# Altium footprint library JMPKG.PcbLib: 337 footprints (part 7 of 22)
Each footprint in its own frame and in the unit in brackets; x right, y up, seen from the top. Pads: shape width x height; smd on the part's side, far side on the other; paste and mask are expansions set on the pad; w line width, h text height; cw(c..) or ccw(c..) is an arc to the next point about the centre after c.
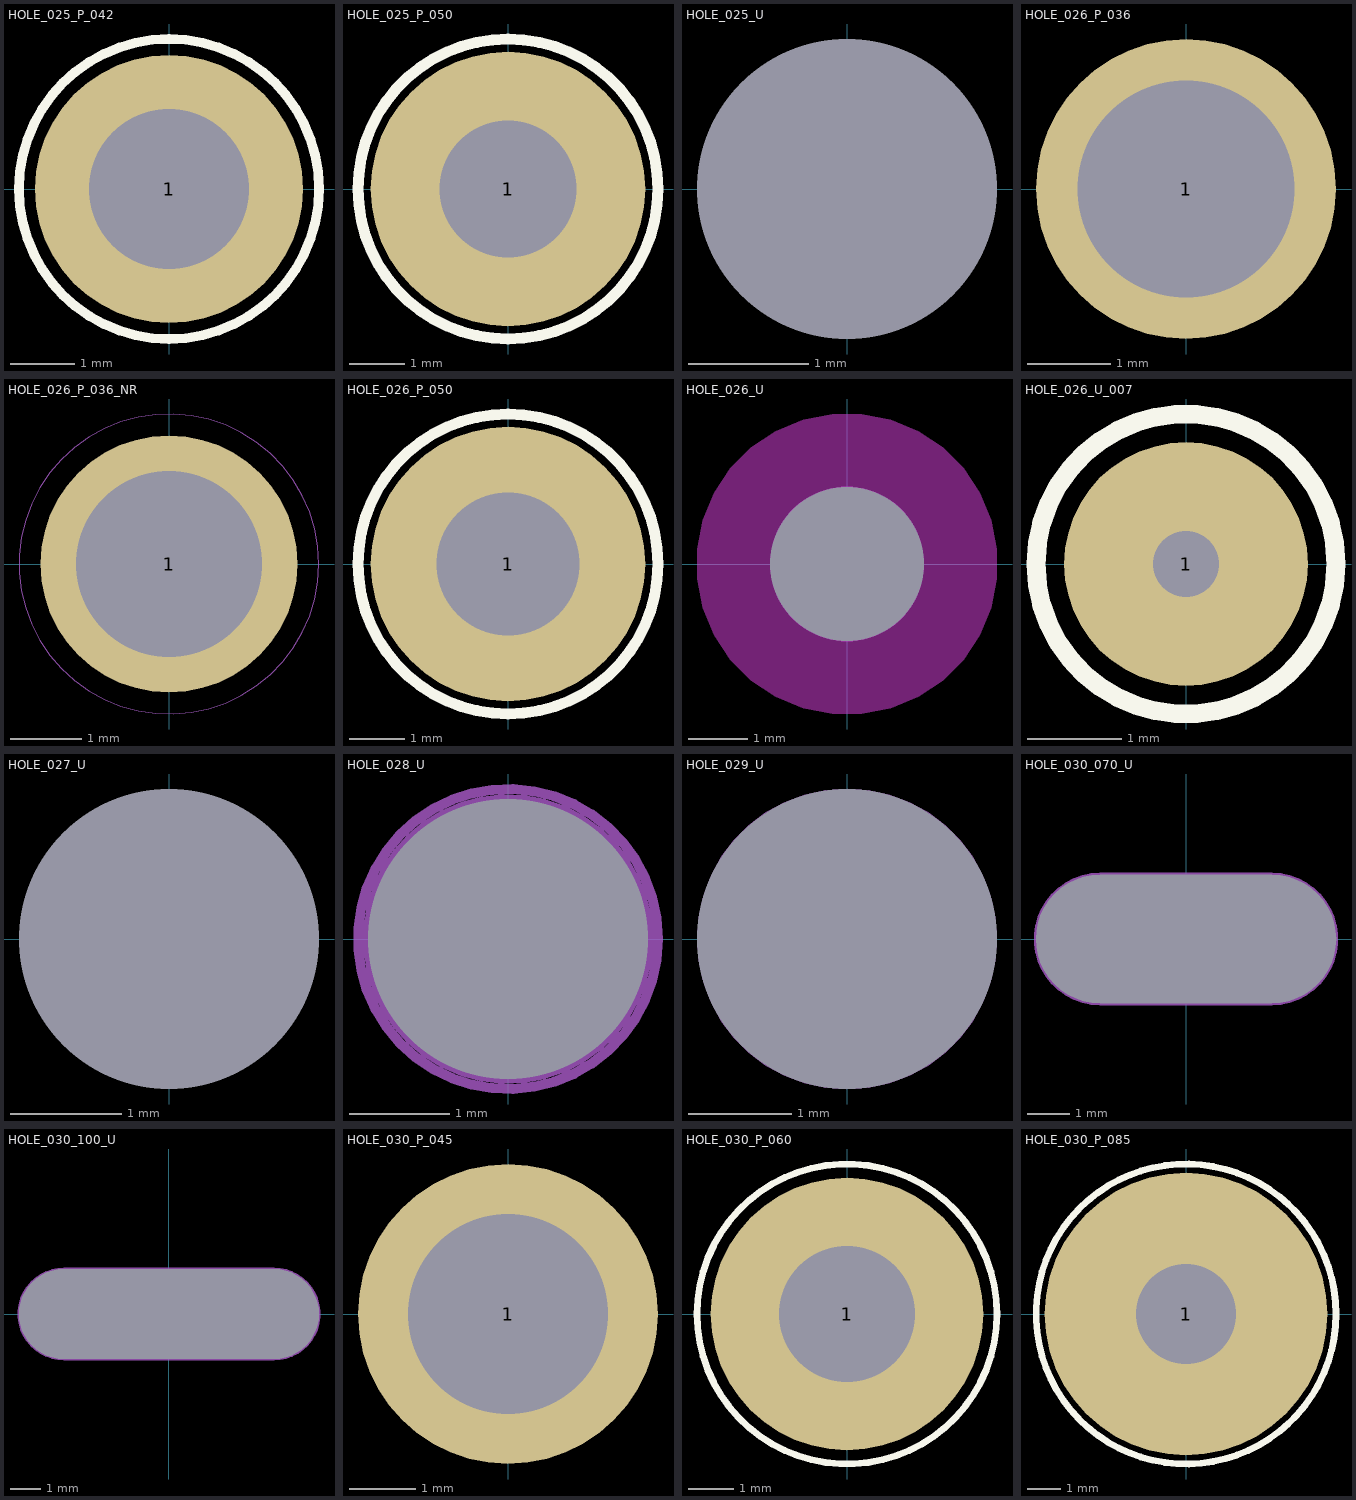
[diagram p6: the footprints below, top view; thin cyan lines are the x and y axes]

## HOLE_025_P_042 [mm]
pads (1):
  round 4.2 hole 2.5 mask+0.2: 1(0,0)
Top Overlay:
  circle w0.15: c0,0 r2.35
Mechanical 15:
  circle w0.01: c0,0 r1.25
Mechanical 16:
  circle w0.01: c0,0 r1.25
Multi-Layer:
  text "Value" at -0.943,-0.749 h0.6
  text "Value" at -0.816,-1.511 h0.6
Mechanical 20:
  circle w0.01: c0,0 r2.35

## HOLE_025_P_050 [mm]
pads (1):
  round 5 hole 2.5 mask+0.05: 1(0,0)
Top Overlay:
  circle w0.2: c0,0 r2.73
Mechanical 15:
  circle w0.01: c0,0 r1.25
Mechanical 16:
  circle w0.01: c0,0 r1.25
Multi-Layer:
  text "Value" at -1.24,-1.83 h0.75
Mechanical 20:
  circle w0.01: c0,0 r2.73

## HOLE_025_U [mm]
pads (1):
  round 0 hole 2.5 unplated: 1(0,0)
Drill Drawing:
  circle w0.01: c0,0 r1.25

## HOLE_026_P_036 [mm]
pads (1):
  round 3.6 hole 2.6 mask+0.1: 1(0,0)
Mechanical 15:
  circle w0.1: c0,0 r1.3
Mechanical 16:
  circle w0.1: c0,0 r1.3
Multi-Layer:
  text "Value" at -1.45,-1.925 h0.85

## HOLE_026_P_036_NR [mm]
pads (1):
  round 3.6 hole 2.6 mask+0.05: 1(0,0)
Mechanical 15:
  circle w0.01: c0,0 r1.3
Mechanical 16:
  circle w0.01: c0,0 r1.3
Multi-Layer:
  text "Value" at -1.405,-1.88 h0.85
Mechanical 20:
  circle w0.01: c0,0 r2.1

## HOLE_026_P_050 [mm]
pads (1):
  round 5 hole 2.6 mask+0.05: 1(0,0)
Top Overlay:
  circle w0.2: c0,0 r2.73
Mechanical 15:
  circle w0.01: c0,0 r1.3
Mechanical 16:
  circle w0.01: c0,0 r1.3
Multi-Layer:
  text "Value" at -1.24,-1.83 h0.75
  text "Value" at -1.235,-0.919 h0.75
Mechanical 20:
  circle w0.01: c0,0 r2.73

## HOLE_026_U [mm]
pads (1):
  round 0 hole 2.6 unplated: 1(0,0)
L1-Top Layer keep-out:
  region: 2.54,0 2.54,0.25 2.442,0.741 2.251,1.203 1.973,1.619 1.619,1.973 1.203,2.251 0.741,2.442 0.25,2.54 0,2.54 -0.25,2.54 -0.741,2.442 -1.203,2.251 -1.619,1.973 -1.973,1.619 -2.251,1.203 -2.442,0.741 -2.54,0.25 -2.54,0 -2.54,-0.25 -2.442,-0.741 -2.251,-1.203 -1.973,-1.619 -1.619,-1.973 -1.203,-2.251 -0.741,-2.442 -0.25,-2.54 0,-2.54 0.25,-2.54 0.741,-2.442 1.203,-2.251 1.619,-1.973 1.973,-1.619 2.251,-1.203 2.442,-0.741 2.54,-0.25
Mechanical 15:
  circle w0.01: c0,0 r1.3
Mechanical 16:
  circle w0.01: c0,0 r1.3

## HOLE_026_U_007 [mm]
pads (1):
  round 2.6 on Top hole 0.7 unplated mask+0.1: 1(0,0)
Top Overlay:
  circle w0.2: c0,0 r1.6
Mechanical 15:
  circle w0.1: c0,0 r0.35

## HOLE_027_U [mm]
pads (1):
  round 0 hole 2.7 unplated: 1(0,0)
Drill Drawing:
  circle w0.01: c0,0 r1.35

## HOLE_028_U [mm]
pads (1):
  round 0 hole 2.8 unplated: 1(0,0)
Mechanical 15:
  circle w0.1: c0,0 r1.4
Mechanical 16:
  circle w0.1: c0,0 r1.4
Mechanical 20:
  circle w0.1: c0,0 r1.5

## HOLE_029_U [mm]
pads (1):
  round 0 hole 2.9 unplated: 1(0,0)
Mechanical 15:
  circle w0.01: c0,0 r1.45
Mechanical 16:
  circle w0.01: c0,0 r1.45

## HOLE_030_070_U [mm]
pads (1):
  rrect100% 0x0 hole 3 slot 7 at 0 deg unplated: 1(0,0)
Mechanical 15:
  lines w0.1: -2,-1.5 2,-1.5 ccw(c2,0) 2,1.5 -2,1.5 ccw(c-2,0) -2,-1.5

## HOLE_030_100_U [mm]
pads (1):
  rrect100% 0x0 hole 3 slot 10 at 0 deg unplated: 1(0,0)
Mechanical 15:
  lines w0.1: 3.498,-1.5 ccw(c3.503,0) 3.501,1.5 -3.5,1.5 ccw(c-3.5,0) -3.5,-1.5 3.5,-1.5

## HOLE_030_P_045 [mm]
pads (1):
  round 4.5 hole 3 mask+0.1: 1(0,0)
Mechanical 15:
  circle w0.1: c0,0 r1.6
Mechanical 16:
  circle w0.1: c0,0 r1.6
Multi-Layer:
  text "Value" at -1.45,-1.925 h0.85

## HOLE_030_P_060 [mm]
pads (1):
  round 6 hole 3 mask+0.05: 1(0,0)
Top Overlay:
  circle w0.15: c0,0 r3.3
Mechanical 15:
  circle w0.01: c0,0 r1.5
Mechanical 16:
  circle w0.01: c0,0 r1.5
Multi-Layer:
  text "Value" at -0.988,-2.305 h0.6
  text "Value" at -0.988,-2.375 h0.6
Mechanical 20:
  circle w0.01: c0,0 r3.3

## HOLE_030_P_085 [mm]
pads (1):
  round 8.5 hole 3 mask+0.05: 1(0,0)
Top Overlay:
  circle w0.2: c0,0 r4.508
Mechanical 15:
  circle w0.01: c0,0 r1.5
Mechanical 16:
  circle w0.01: c0,0 r1.5
Multi-Layer:
  text "Value" at -1.19,-0.951 h0.75
Mechanical 20:
  circle w0.01: c0,0 r4.508